# EAGLE library part ANALOG_DEVICES_ADUM1250ARZ (library Upverter Library)
ADI-ADuM1250-R-8
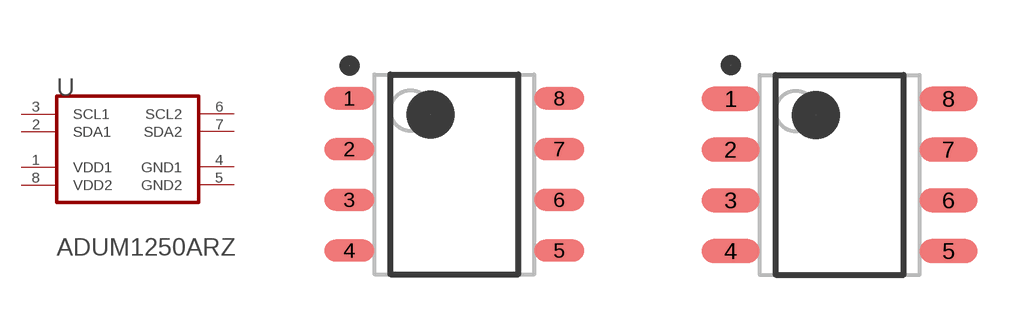
[diagram p0: symbol with the pads of ANALOG_DEVICES_ADUM1250ARZ_0; footprints ANALOG_DEVICES_ADUM1250ARZ_0, ANALOG_DEVICES_ADUM1250ARZ_1]

Designator prefix U

## ANALOG_DEVICES_ADUM1250ARZANALOG_DEVICES_ADUM1250ARZ_0_0 (Component_Link_1_Description: Manufacturer URL; Component_Link_1_URL: http://www.analog.com/; Data_Rate: 1 Mbps; Datasheet_Version: Rev. H; MF: Analog Devices; MPN: ADUM1250ARZ; Mounting_Technology: Surface Mount; Package_Description: 8-Pin Small Outline Package, Body 4.9 x 3.9 mm, Pitch 1.27 mm; Packing: Tube; Supply_Voltage_Max: 5.5 V; Supply_Voltage_Min: 3 V; Temperature_Max: 105 degC; Temperature_Min: -40 degC; ciiva_ids: 966902; datasheet: http://www.analog.com/media/en/technical-documentation/data-sheets/ADUM1250_1251.pdf; footprint_variant_name_0: Level C; footprint_variant_name_1: Level B; footprint_variant_name_2: Level A; import_ts: 1521846271; imported: yes; imported_from: vault; package: MS-012-AA; pin_0_0_2_inside_edge: clock; pin_0_0_5_inside_edge: clock; prefix: U; release_date: 1464842896; rohs: Yes; vault_guid: 2A4EF708-4F8E-492D-AAFE-B18E0A84DF99; vault_revision: 8C222443-3EEE-4C61-9CC9-8AB0350D3B5D)  [ANALOG_DEVICES_ADUM1250ARZ_0]
1  VDD1  pwr
2  SDA1
3  SCL1
4  GND1  pwr
5  GND2  pwr
6  SCL2
7  SDA2
8  VDD2  pwr

## ANALOG_DEVICES_ADUM1250ARZANALOG_DEVICES_ADUM1250ARZ_0_1 (Component_Link_1_Description: Manufacturer URL; Component_Link_1_URL: http://www.analog.com/; Data_Rate: 1 Mbps; Datasheet_Version: Rev. H; MF: Analog Devices; MPN: ADUM1250ARZ; Mounting_Technology: Surface Mount; Package_Description: 8-Pin Small Outline Package, Body 4.9 x 3.9 mm, Pitch 1.27 mm; Packing: Tube; Supply_Voltage_Max: 5.5 V; Supply_Voltage_Min: 3 V; Temperature_Max: 105 degC; Temperature_Min: -40 degC; ciiva_ids: 966902; datasheet: http://www.analog.com/media/en/technical-documentation/data-sheets/ADUM1250_1251.pdf; footprint_variant_name_0: Level C; footprint_variant_name_1: Level B; footprint_variant_name_2: Level A; import_ts: 1521846271; imported: yes; imported_from: vault; package: MS-012-AA; pin_0_0_2_inside_edge: clock; pin_0_0_5_inside_edge: clock; prefix: U; release_date: 1464842896; rohs: Yes; vault_guid: 2A4EF708-4F8E-492D-AAFE-B18E0A84DF99; vault_revision: 8C222443-3EEE-4C61-9CC9-8AB0350D3B5D)  [ANALOG_DEVICES_ADUM1250ARZ_1]
Pads as for ANALOG_DEVICES_ADUM1250ARZ_0

## ANALOG_DEVICES_ADUM1250ARZANALOG_DEVICES_ADUM1250ARZ_0_2 (Component_Link_1_Description: Manufacturer URL; Component_Link_1_URL: http://www.analog.com/; Data_Rate: 1 Mbps; Datasheet_Version: Rev. H; MF: Analog Devices; MPN: ADUM1250ARZ; Mounting_Technology: Surface Mount; Package_Description: 8-Pin Small Outline Package, Body 4.9 x 3.9 mm, Pitch 1.27 mm; Packing: Tube; Supply_Voltage_Max: 5.5 V; Supply_Voltage_Min: 3 V; Temperature_Max: 105 degC; Temperature_Min: -40 degC; ciiva_ids: 966902; datasheet: http://www.analog.com/media/en/technical-documentation/data-sheets/ADUM1250_1251.pdf; footprint_variant_name_0: Level C; footprint_variant_name_1: Level B; footprint_variant_name_2: Level A; import_ts: 1521846271; imported: yes; imported_from: vault; package: MS-012-AA; pin_0_0_2_inside_edge: clock; pin_0_0_5_inside_edge: clock; prefix: U; release_date: 1464842896; rohs: Yes; vault_guid: 2A4EF708-4F8E-492D-AAFE-B18E0A84DF99; vault_revision: 8C222443-3EEE-4C61-9CC9-8AB0350D3B5D)  [ANALOG_DEVICES_ADUM1250ARZ_2]
Pads as for ANALOG_DEVICES_ADUM1250ARZ_0

## Footprint ANALOG_DEVICES_ADUM1250ARZ_0 (pad centres in mm)
ADI-ADuM1250-R-8
smd 1.25 x 0.55: 1 -2.625,1.905; 2 -2.625,0.635; 3 -2.625,-0.635; 4 -2.625,-1.905; 5 2.625,-1.905; 6 2.625,-0.635; 7 2.625,0.635; 8 2.625,1.905

## Footprint ANALOG_DEVICES_ADUM1250ARZ_1 (pad centres in mm)
ADI-ADuM1250-R-8
smd 1.45 x 0.6: 1 -2.725,1.905; 2 -2.725,0.635; 3 -2.725,-0.635; 4 -2.725,-1.905; 5 2.725,-1.905; 6 2.725,-0.635; 7 2.725,0.635; 8 2.725,1.905

## Footprint ANALOG_DEVICES_ADUM1250ARZ_2 (pad centres in mm)
ADI-ADuM1250-R-8
smd 1.65 x 0.65: 1 -2.825,1.905; 2 -2.825,0.635; 3 -2.825,-0.635; 4 -2.825,-1.905; 5 2.825,-1.905; 6 2.825,-0.635; 7 2.825,0.635; 8 2.825,1.905